# EAGLE library part STM32L433CBY6 (library circuit_tree)
IC
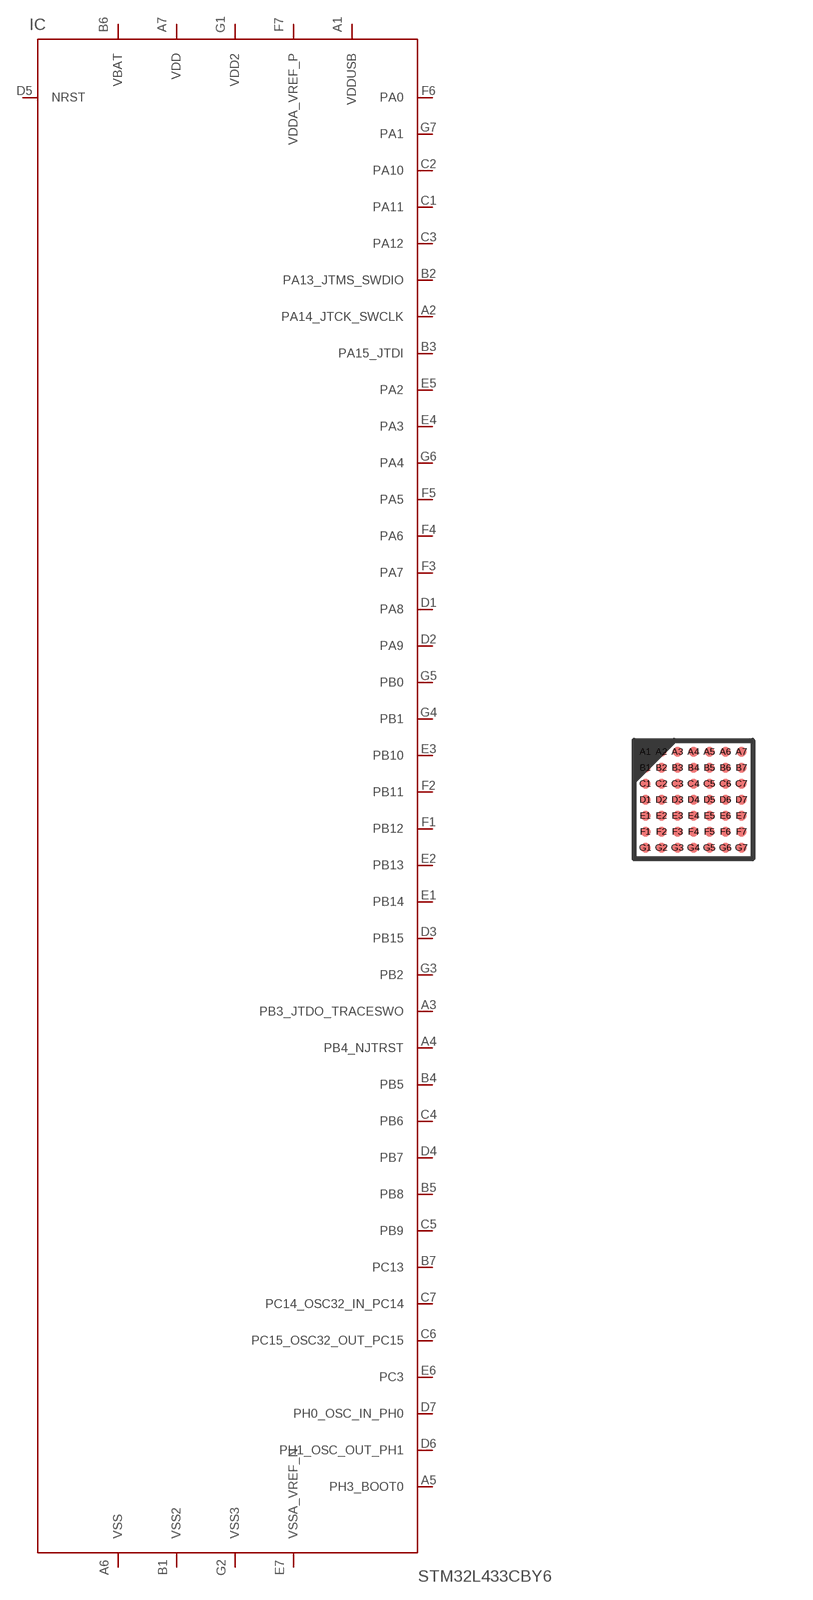
[diagram p7: symbol with the pads of WLCSP49; footprint WLCSP49]

Designator prefix IC

## STM32L433CBY6  [WLCSP49]
A1  VDDUSB  pas
A2  PA14_JTCK_SWCLK  pas
A3  PB3_JTDO_TRACESWO  pas
A4  PB4_NJTRST  pas
A5  PH3_BOOT0  pas
A6  VSS  pas
A7  VDD  pas
B1  VSS2  pas
B2  PA13_JTMS_SWDIO  pas
B3  PA15_JTDI  pas
B4  PB5  pas
B5  PB8  pas
B6  VBAT  pas
B7  PC13  pas
C1  PA11  pas
C2  PA10  pas
C3  PA12  pas
C4  PB6  pas
C5  PB9  pas
C6  PC15_OSC32_OUT_PC15  pas
C7  PC14_OSC32_IN_PC14  pas
D1  PA8  pas
D2  PA9  pas
D3  PB15  pas
D4  PB7  pas
D5  NRST  pas
D6  PH1_OSC_OUT_PH1  pas
D7  PH0_OSC_IN_PH0  pas
E1  PB14  pas
E2  PB13  pas
E3  PB10  pas
E4  PA3  pas
E5  PA2  pas
E6  PC3  pas
E7  VSSA_VREF_N  pas
F1  PB12  pas
F2  PB11  pas
F3  PA7  pas
F4  PA6  pas
F5  PA5  pas
F6  PA0  pas
F7  VDDA_VREF_P  pas
G1  VDD2  pas
G2  VSS3  pas
G3  PB2  pas
G4  PB1  pas
G5  PB0  pas
G6  PA4  pas
G7  PA1  pas

## Footprint WLCSP49 (pad centres in mm)
WLCSP49 2.965 x 2.965 mm, 7 x 7-pin 0.4 mm pitch wafer-level chip-scale package
smd 0.25 x 0.25: A1 -1.2,1.2; A2 -0.8,1.2; A3 -0.4,1.2; A4 0,1.2; A5 0.4,1.2; A6 0.8,1.2; A7 1.2,1.2; B1 -1.2,0.8; B2 -0.8,0.8; B3 -0.4,0.8; B4 0,0.8; B5 0.4,0.8; B6 0.8,0.8; B7 1.2,0.8; C1 -1.2,0.4; C2 -0.8,0.4; C3 -0.4,0.4; C4 0,0.4; C5 0.4,0.4; C6 0.8,0.4; C7 1.2,0.4; D1 -1.2,0; D2 -0.8,0; D3 -0.4,0; D4 0,0; D5 0.4,0; D6 0.8,0; D7 1.2,0; E1 -1.2,-0.4; E2 -0.8,-0.4; E3 -0.4,-0.4; E4 0,-0.4; E5 0.4,-0.4; E6 0.8,-0.4; E7 1.2,-0.4; F1 -1.2,-0.8; F2 -0.8,-0.8; F3 -0.4,-0.8; F4 0,-0.8; F5 0.4,-0.8; F6 0.8,-0.8; F7 1.2,-0.8; G1 -1.2,-1.2; G2 -0.8,-1.2; G3 -0.4,-1.2; G4 0,-1.2; G5 0.4,-1.2; G6 0.8,-1.2; G7 1.2,-1.2